# Altium footprint library TPD4E001DBVR.PcbLib: 3 footprints
Each footprint in its own frame and in the unit in brackets; x right, y up, seen from the top. Pads: shape width x height; smd on the part's side, far side on the other; paste and mask are expansions set on the pad; w line width, h text height; cw(c..) or ccw(c..) is an arc to the next point about the centre after c.
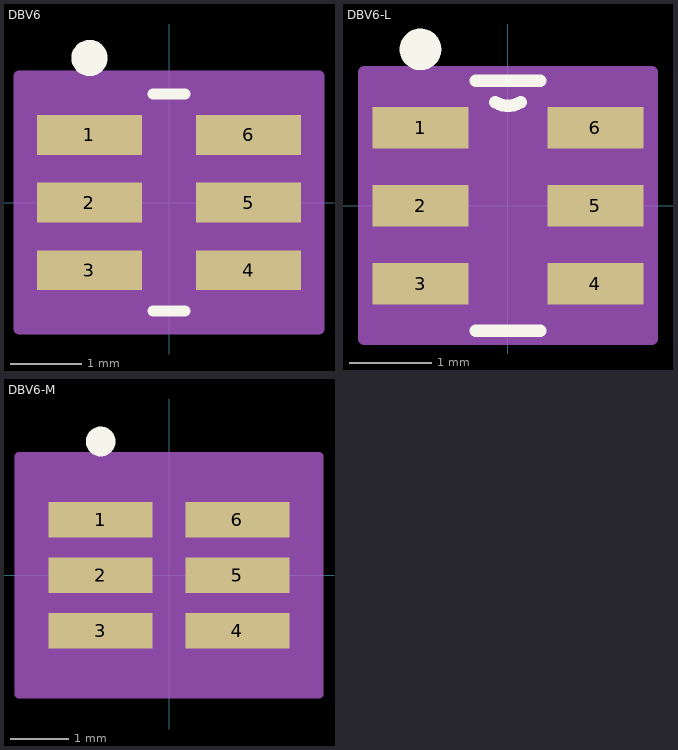
[diagram p0: the footprints below, top view; thin cyan lines are the x and y axes]

## DBV6 [mil]
pads (6):
  rect 58x22 smd: 1(-44,37.4) 2(-44,0) 3(-44,-37.4) 4(44,-37.4) 5(44,0) 6(44,37.4)
Top Overlay:
  circle w10: c-44,80 r5
  lines w6: -8.91,-60 8.91,-60 ; -8.91,60 8.91,60
Mechanical 13:
  lines w0: -12,60 ccw(c0,60) 12,60
Mechanical 15:
  region: 83,-70 -83,-70 -83,70 83,70
  lines w6: -83,-70 -83,70 83,70 83,-70 -83,-70
3D body: height 57.01, standoff 0, extent -59,-60 59,60

## DBV6-L [mil]
pads (6):
  rect 46x20 smd: 1(-42,37.4) 2(-42,0) 3(-42,-37.4) 4(42,-37.4) 5(42,0) 6(42,37.4)
Top Overlay:
  circle w10: c-42,75 r5
  lines w6: -15.41,-60 15.41,-60 ; -15.41,60 15.41,60 ; -6.1,49.66 ccw(c0,60) 6.1,49.66
Mechanical 13:
  lines w0: -12,60 ccw(c0,60) 12,60
Mechanical 15:
  region: 69,-64 -69,-64 -69,64 69,64
  lines w6: -69,-64 -69,64 69,64 69,-64 -69,-64
3D body: height 57.01, standoff 0, extent -58.99,-59.99 59,60.01

## DBV6-M [mil]
pads (6):
  rect 70x24 smd: 1(-46,37.4) 2(-46,0) 3(-46,-37.4) 4(46,-37.4) 5(46,0) 6(46,37.4)
Top Overlay:
  circle w10: c-46,90 r5
Mechanical 13:
  lines w0: -12,60 ccw(c0,60) 12,60
Mechanical 15:
  region: 101,-80 -101,-80 -101,80 101,80
  lines w6: -101,-80 101,-80 101,80 -101,80 -101,-80
3D body: height 57.01, standoff 0, extent -58.99,-59.99 59.01,60.01